# Altium schematic symbol library PI6C557-03ALEX.SchLib: 1 symbol
Pins are listed as number, name and electrical type; pins without a type are passive.

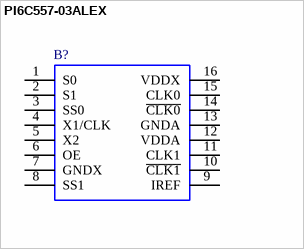
[diagram p0: symbol PI6C557-03ALEX]

## PI6C557-03ALEX
designator B?
Clock Generators & Support Products PCI express Gen 2 2 ouput clock gen; Manufacturer_Name: Diodes Inc.; Geometry.Height: 1.2mm; Manufacturer_Part_Number: PI6C557-03ALEX; Mouser Part Number: 729-PI6C557-03ALEX; Mouser Price/Stock: https://www.mouser.co.uk/ProductDetail/Diodes-Incorporated/PI6C557-03ALEX?qs=PzICbMaShUcQrn5pdKKZsQ%3D%3D; Arrow Part Number: PI6C557-03ALEX; Arrow Price/Stock: https://www.arrow.com/en/products/pi6c557-03alex/diodes-incorporated; Mouser Testing Part Number: *; Mouser Testing Price/Stock: *; Datasheet Link: https://pl.mouser.com/datasheet/2/115/PI6C557-03A-1315221.pdf; LCSC Part #: C500785
footprint SOP65P640X120-16N
pins: 1 S0, 2 S1, 3 SS0, 4 X1/CLK, 5 X2, 6 OE, 7 GNDX, 8 SS1, 9 IREF, 10 ~{CLK1}, 11 CLK1, 12 VDDA, 13 GNDA, 14 ~{CLK0}, 15 CLK0, 16 VDDX